# EAGLE library part PCA9543APW,118 (library Deegou_IC)
2-channel I2C-bus switch with interrupt logic and reset Source: Datasheet
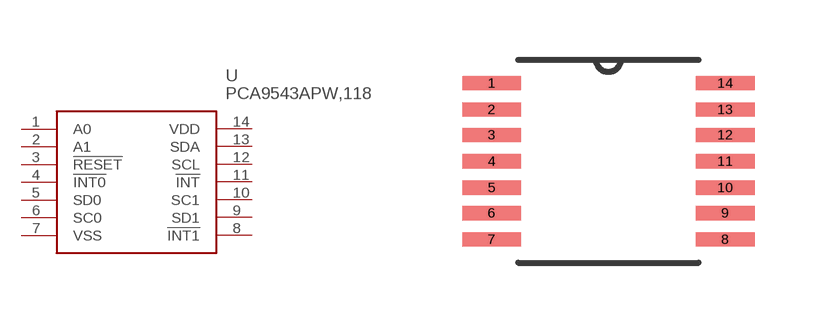
[diagram p179: symbol with the pads of SOP65P640X110-14N; footprint SOP65P640X110-14N]

Designator prefix U

## PCA9543APW,118 (ARROW_PART_NUMBER: PCA9543APW,118; ARROW_PRICE-STOCK: https://www.arrow.com/en/products/pca9543apw118/nxp-semiconductors; DESCRIPTION: 2-channel I2C-bus switch with interrupt logic and reset; HEIGHT: mm; MANUFACTURER_NAME: Nexperia; MANUFACTURER_PART_NUMBER: PCA9543APW,118)  [SOP65P640X110-14N]
1  A0
2  A1
3  !RESET
4  !INT0
5  SD0
6  SC0
7  VSS
8  !INT1
9  SD1
10  SC1
11  !INT
12  SCL
13  SDA
14  VDD

## Footprint SOP65P640X110-14N (pad centres in mm)
SOP65P640X110-14N
smd 1.473 x 0.356: 1 -2.921,1.956; 2 -2.921,1.295; 3 -2.921,0.66; 4 -2.921,0; 5 -2.921,-0.66; 6 -2.921,-1.295; 7 -2.921,-1.956; 8 2.921,-1.956; 9 2.921,-1.295; 10 2.921,-0.66; 11 2.921,0; 12 2.921,0.66; 13 2.921,1.295; 14 2.921,1.956